# EAGLE library part TMP102 (library squirrel)
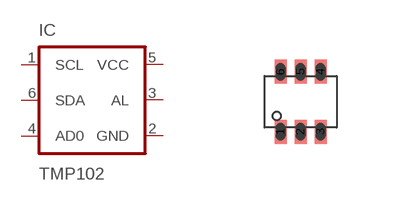
[diagram p8: symbol with the pads of SOT563; footprint SOT563]

Designator prefix IC

## TMP102  [SOT563]
1  SCL
2  GND  pwr
3  AL
4  AD0  in
5  VCC  pwr
6  SDA

## Footprint SOT563 (pad centres in mm)
smd 0.3 x 0.6: 1 0,0; 2 0.5,0; 3 1,0; 4 1,1.5; 5 0.5,1.5; 6 0,1.5